# Altium schematic symbol library OptoElectronics.SchLib: 6 symbols
Pins are listed as number, name and electrical type; pins without a type are passive.

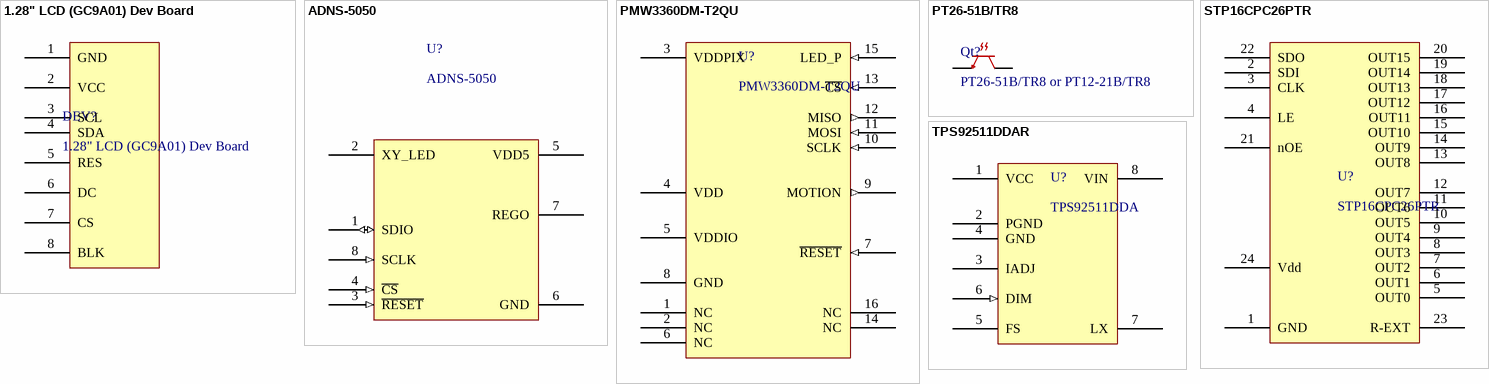
[diagram p0: symbols 1.28" LCD (GC9A01) Dev Board to TPS92511DDAR]

## 1.28" LCD (GC9A01) Dev Board
designator DEV?
footprint 1.28" LCD (GC9A01) Dev Board
pins: 1 GND, 2 VCC, 3 SCL, 4 SDA, 5 RES, 6 DC, 7 CS, 8 BLK

## ADNS-5050
designator U?
Optical Mouse Navigation Sensor
footprint ADNS-5050
pins: 1 SDIO (io), 2 XY_LED (oc), 3 ~{RESET} (in), 4 ~{CS} (in), 5 VDD5 (power), 6 GND, 7 REGO (power), 8 SCLK (in)

## PMW3360DM-T2QU
designator U?
Optical Gaming Navigation Sensor
footprint PMW3360DM-T2QU
pins: 1 NC, 2 NC, 3 VDDPIX (power), 4 VDD (power), 5 VDDIO (power), 6 NC, 7 ~{RESET} (in), 8 GND (power), 9 MOTION (out), 10 SCLK (in), 11 MOSI (in), 12 MISO (out), 13 ~{CS} (in), 14 NC, 15 LED_P (in), 16 NC

## PT26-51B/TR8
designator Qt?, comment PT26-51B/TR8 or PT12-21B/TR8
Phototransistor 940nm Side View 1206 (3216 Metric); Supplier 1: Digi-Key; Supplier 2: Digi-Key; Supplier Part Number 2: 1080-1377-1-ND; Supplier Part Number 1: 1080-1387-1-ND
footprint PT26-51B/TR8
pins: C (oc), E (oe)

## STP16CPC26PTR
designator U?
16x LED driver with SPI Interface; Supplier 1: Digi-Key; Supplier Part Number 1: 497-11923-1-ND
footprint STP16CPC26PTR (SOP, 24-Leads, Body 8.8x4.0mm (max), Pitch 0.63mm, IPC Medium Density)
pins: 1 GND, 2 SDI, 3 CLK, 4 LE, 5 OUT0, 6 OUT1, 7 OUT2, 8 OUT3, 9 OUT4, 10 OUT5, 11 OUT6, 12 OUT7, 13 OUT8, 14 OUT9, 15 OUT10, 16 OUT11, 17 OUT12, 18 OUT13, 19 OUT14, 20 OUT15, 21 nOE, 22 SDO, 23 R-EXT, 24 Vdd

## TPS92511DDAR
designator U?, comment TPS92511DDA
LED Driver Step-Down (Buck) Analog, PWM Dimming 500mA 8-SO PowerPad; Supplier 1: Digi-Key; Supplier Part Number 1: 296-41001-1-ND
footprint TPS92511 - SOIC127P600X170_HS-9M (SOIC, 8-Leads, Body 4.90x3.90mm, Pitch 1.27mm, Thermal Pad 2.34x2.34mm, IPC Low Density)
pins: 1 VCC (power), 2 PGND (power), 3 IADJ, 4 GND (power), 5 FS, 6 DIM (in), 7 LX, 8 VIN (power)